# Altium footprint library AVE107M16E16T-F.PcbLib: 1 footprints
Each footprint in its own frame and in the unit in brackets; x right, y up, seen from the top. Pads: shape width x height; smd on the part's side, far side on the other; paste and mask are expansions set on the pad; w line width, h text height; cw(c..) or ccw(c..) is an arc to the next point about the centre after c.
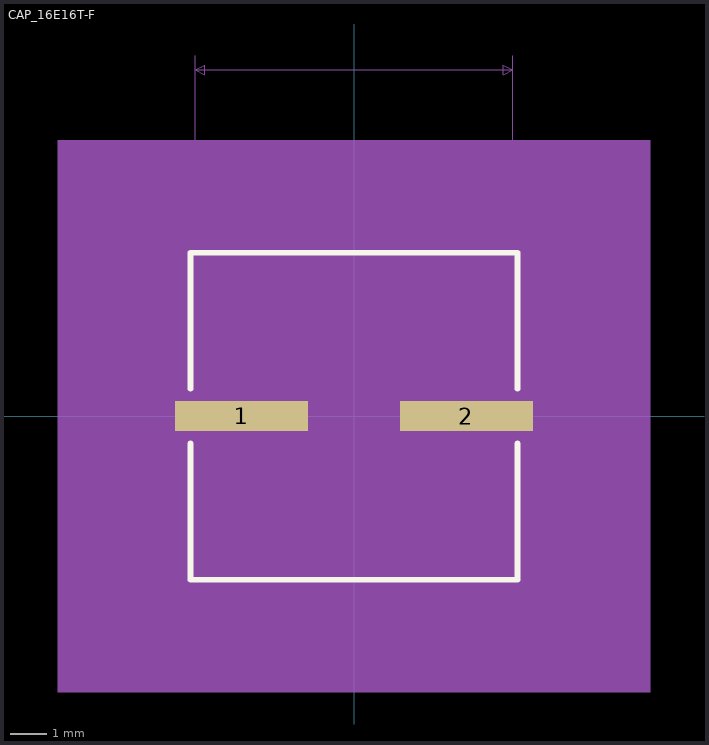
[diagram p0: the footprint, top view; thin cyan lines are the x and y axes]

## CAP_16E16T-F [mil]
pads (2):
  rect 142x32 smd paste+0 mask+0: 1(-120,0) 2(120,0)
Top Overlay:
  lines w6: -174.5,-29.1 -174.5,-174.5 174.5,-174.5 174.5,-29.1 ; -174.5,29.1 -174.5,174.5 174.5,174.5 174.5,29.1
Mechanical 5:
  region: 316,-294.5 -316,-294.5 -316,294.5 316,294.5
Mechanical 7:
  lines w1: -181,-169.5 179.5,-169.5 ; -181,169.5 179.5,169.5 ; -169.5,26 -169.5,384.5 ; 169.5,26 169.5,384.5 ; -169.5,369.5 -159.5,364.5 -159.5,374.5 -169.5,369.5 ; -169.5,369.5 169.5,369.5 ; -166,-169.5 -161,-159.5 -171,-159.5 -166,-169.5 ; -166,-169.5 -166,169.5 ; -166,169.5 -161,159.5 -171,159.5 -166,169.5 ; 169.5,369.5 159.5,364.5 159.5,374.5 169.5,369.5
  text "0.339in/8.611mm" at -373.5,-12.5 h25
  text "0.339in/8.611mm" at -93.75,389.5 h25
  text "Alternate 2 Pad Style: OX60Y90D30P" at -425,-579.5 h50
  text "Alternate 1 Pad Style: OX60Y90D30P" at -425,-479.5 h50
  text "Default Pad Style: RX142Y32D0T" at -375,-379.5 h50
Mechanical 13:
  lines w1: -169.5,-169.5 -169.5,169.5 169.5,169.5 169.5,-169.5 -169.5,-169.5
Mechanical 15:
  region: -179.5,-26 -201,-26 -201,26 -179.5,26 -179.5,179.5 179.5,179.5 179.5,26 201,26 201,-26 179.5,-26 179.5,-179.5 -179.5,-179.5
  lines w6: -201,-26 -179.5,-26 -179.5,-179.5 179.5,-179.5 179.5,-26 201,-26 201,26 179.5,26 179.5,179.5 -179.5,179.5 -179.5,26 -201,26 -201,-26
3D body "CAP_16E16T-F.step": height 267.99, standoff 0, extent -169.49,-169.49 169.49,169.49